# Altium footprint library 662103136022.PcbLib: 1 footprints
Each footprint in its own frame and in the unit in brackets; x right, y up, seen from the top. Pads: shape width x height; smd on the part's side, far side on the other; paste and mask are expansions set on the pad; w line width, h text height; cw(c..) or ccw(c..) is an arc to the next point about the centre after c.
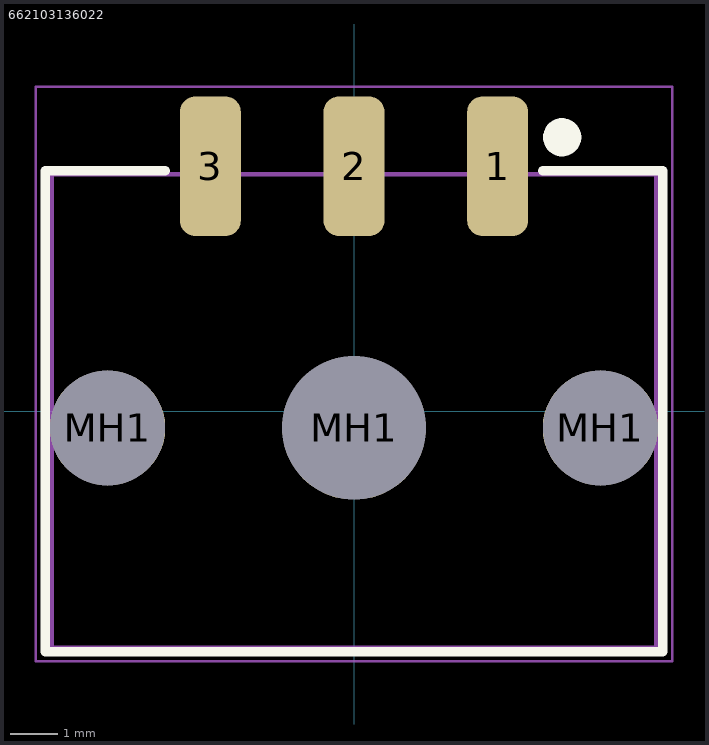
[diagram p0: the footprint, top view; thin cyan lines are the x and y axes]

## 662103136022 [mm]
pads (6):
  rrect50% 1.27x2.92 smd: 1(3,5.12) 2(0,5.12) 3(-3,5.12)
  oval 2.41x2.4 hole 2.4 unplated: MH1(-5.15,-0.35) MH1(5.15,-0.35)
  round 3 hole 3 unplated: MH1(0,-0.35)
Top Overlay:
  circle w0.4: c4.35,5.725 r0.2
  lines w0.2: -3.95,5.025 -6.45,5.025 -6.45,-5.025 6.45,-5.025 6.45,5.025 3.95,5.025
Top Assembly:
  lines w0.1: -6.325,-4.95 6.325,-4.95 6.325,4.95 -6.325,4.95 -6.325,-4.95
Top Courtyard:
  lines w0.05: -0.5,0 0.5,0 ; 0,-0.5 0,0.5 ; -6.65,-5.225 -6.65,6.78 6.65,6.78 6.65,-5.225 -6.65,-5.225
3D body "662103136022.stp": height 5.6, standoff -3.17, extent -6.325,-4.95 6.325,6.398